# Altium schematic symbol library DRV8231A.SchLib: 1 symbol
Pins are listed as number, name and electrical type; pins without a type are passive.

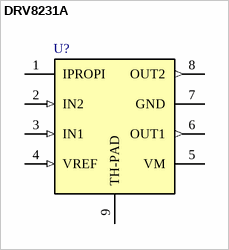
[diagram p0: symbol DRV8231A]

## DRV8231A
designator U?, comment OK  (value not drawn)
Motor Drives 35-V, 3.7-A H-bridge motor driver
pins: 1 IPROPI, 2 IN2 (in), 3 IN1 (in), 4 VREF (in), 5 VM, 6 OUT1 (out), 7 GND, 8 OUT2 (out), 9 TH-PAD